# Altium schematic symbol library UCC21540.SchLib: 1 symbol
Pins are listed as number, name and electrical type; pins without a type are passive.

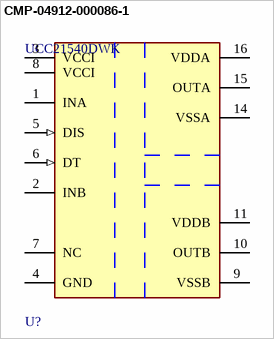
[diagram p0: symbol CMP-04912-000086-1]

## CMP-04912-000086-1
designator U?, comment UCC21540DWK
DGTL ISO 5.7KV GATE DRVR 16SOIC; Pulse Width Distortion (PWD): 5ns; Propagation Delay: 30ns; High Level Output Current: 6A; Number of Channels: 2; Low Level Output Current: 4A; Approvals: CSA; Working Voltage: 2.121kV; Case/Package: SOIC; Mount: Surface Mount; Packaging: Tape and Reel; Number of Pins: 16; Max Operating Temperature: 125°C; Min Operating Temperature: -40°C; RoHS Compliant: Yes
footprint FP-DW0016B-MFG
pins: 1 INA (hiz), 2 INB (hiz), 3 VCCI (power), 4 GND (power), 5 DIS (in), 6 DT (in), 7 NC, 8 VCCI (power), 9 VSSB (power), 10 OUTB, 11 VDDB (power), 14 VSSA (power), 15 OUTA, 16 VDDA (power)